# Altium integrated library RF Micro RF and IF Frequency Synthesiser.IntLib: 1 symbol
Pins are listed as number, name and electrical type; pins without a type are passive.

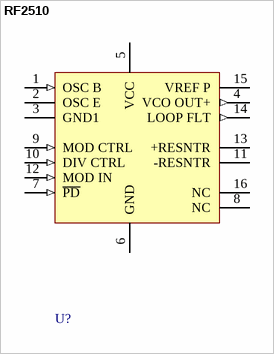
[diagram p0: symbol RF2510]

## RF2510
designator U?
VHF/UHF Transmitter; ComponentAvailability: Not for New Design; Published: 8-Jun-2000; LatestRevisionDate: 04-Mar-2005; LatestRevisionNote: Sch and PCB updated to match Datasheet Rev. A8.; DatasheetVersion: Rev. A8; PackageVersion: 1997; PackageReference: SSOP-16; Publisher: Altium Limited; PackageDescription: SSOP; 16 Leads; Body Width 3.9 mm; Pitch 0.64 mm; ComponentLink1Description: Manufacturer Link; ComponentLink1URL: http://www.rfmd.com/; ComponentLink2Description: Datasheet; ComponentLink2URL: http://www.rfmd.com/DataBooks/db97/2510.pdf
footprint SSOP-16 (SSOP; 16 Leads; Body Width 3.9 mm; Pitch 0.64 mm)
pins: 1 OSC B (in), 2 OSC E, 3 GND1 (power), 4 VCO OUT+ (out), 5 VCC (power), 6 GND (power), 7 ~{PD} (in), 8 NC, 9 MOD CTRL (in), 10 DIV CTRL (in), 11 -RESNTR, 12 MOD IN (in), 13 +RESNTR, 14 LOOP FLT (out), 15 VREF P, 16 NC